# EAGLE library part FP_100SS5-07 (library PP_Displays)
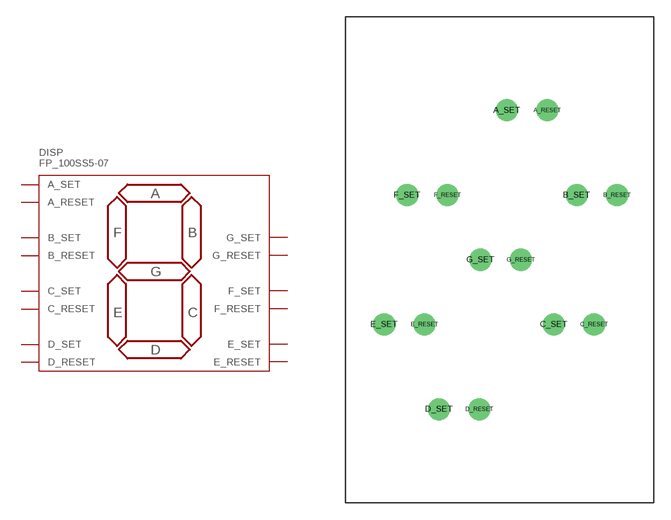
[diagram p3: symbol with the pads of FP_100SS5-07; footprint FP_100SS5-07]

Designator prefix DISP

## FP_100SS5-07  [FP_100SS5-07]
A_RESET  A_RESET
A_SET  A_SET
B_RESET  B_RESET
B_SET  B_SET
C_RESET  C_RESET
C_SET  C_SET
D_RESET  D_RESET
D_SET  D_SET
E_RESET  E_RESET
E_SET  E_SET
F_RESET  F_RESET
F_SET  F_SET
G_RESET  G_RESET
G_SET  G_SET

## Footprint FP_100SS5-07 (pad centres in mm)
drill 1.3: A_RESET 17.805,34.671; A_SET 14.249,34.671; B_RESET 23.978,27.178; B_SET 20.422,27.178; C_RESET 21.946,15.748; C_SET 18.39,15.748; D_RESET 11.811,8.255; D_SET 8.255,8.255; E_RESET 6.96,15.748; E_SET 3.404,15.748; F_RESET 8.992,27.178; F_SET 5.436,27.178; G_RESET 15.469,21.463; G_SET 11.913,21.463